# EAGLE library part 057-006- (library SmartTreeCan)
CONNECTOR 6-pin series 057 contact pc board low profile headers
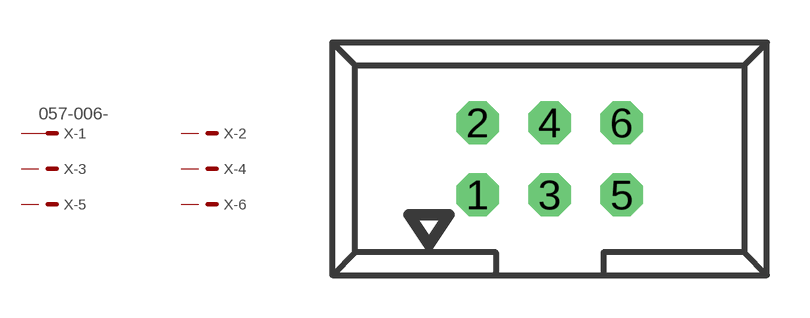
[diagram p1: symbol with the pads of 057-006-1; footprint 057-006-1]

Designator prefix X; gates -1=MV -2=M -3=M -4=M -5=M -6=M

## 057-006-1 (OC_FARNELL: unknown; OC_NEWARK: unknown)  [057-006-1]
1  -1:S  pas
2  -2:S  pas
3  -3:S  pas
4  -4:S  pas
5  -5:S  pas
6  -6:S  pas

## Footprint 057-006-1 (pad centres in mm)
CONNECTOR series 057 contact pc board low profile headers straight
drill 1 octagon: 1 -2.54,-1.27; 2 -2.54,1.27; 3 0,-1.27; 4 0,1.27; 5 2.54,-1.27; 6 2.54,1.27